# Altium schematic symbol library LDO.SchLib: 11 symbols
Pins are listed as number, name and electrical type; pins without a type are passive.

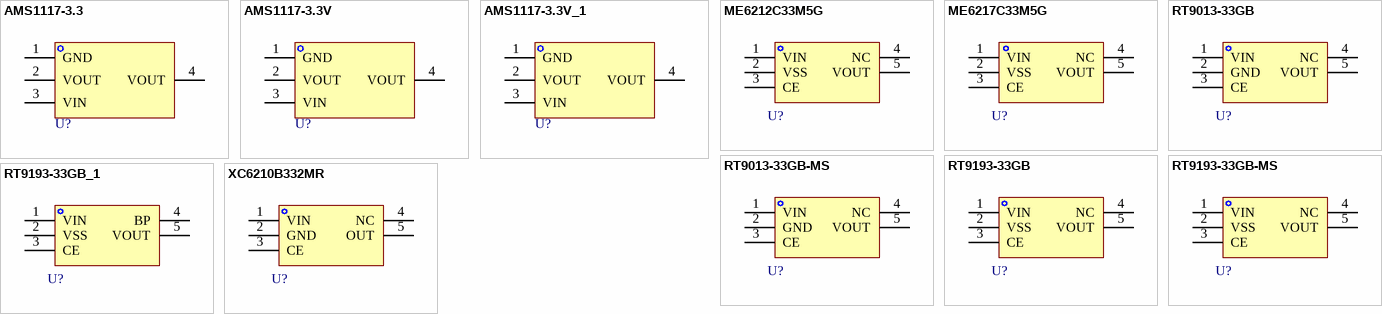
[diagram p0: symbols AMS1117-3.3 to XC6210B332MR]

## AMS1117-3.3
designator U?  (value not drawn)
AMS AMS1117 LDO SOT223封装 输出3.3V; 输出类型: 固定; 工作电压: 16V; 输出电压: 3.3V; 输出电流: 1A; 工作温度: -40℃~+125℃; 封装: SOT-223; 压差: 1.1V@(800mA); ComponentLink1Description: Datasheet; ComponentLink1URL: http://www.advanced-monolithic.com/pdf/ds1117.pdf; 制造商: AMS; 类别: LDO; 子类别: -
footprint AMS1117-SOT223 (SOT223, 4-Leads, Body 6.51x7.00mm (avg), Pitch 2.29mm, IPC Medium Density)
pins: 1 GND (power), 2 VOUT, 3 VIN (power), 4 VOUT

## AMS1117-3.3V
designator U?  (value not drawn)
JSMSEMI(杰盛微) AMS1117 LDO SOT223封装 输出3.3V; 输出类型: 固定; 工作电压: 15V; 输出电压: 3.3V; 输出电流: 1.2A; 工作温度: -40℃~+125℃; 封装: SOT-223; 压差: 1.5V@(800mA); ComponentLink1Description: Datasheet; ComponentLink1URL: http://www.advanced-monolithic.com/pdf/ds1117.pdf; 制造商: JSMSEMI(杰盛微); 类别: LDO; 子类别: -
footprint JSMSEMI-SOT223 (SOT223, 4-Leads, Body 6.30x6.95mm (avg), Pitch 2.30mm, IPC Medium Density)
pins: 1 GND (power), 2 VOUT, 3 VIN (power), 4 VOUT

## AMS1117-3.3V_1
designator U?, comment AMS1117-3.3V  (value not drawn)
MSKSEMI(美森科) AMS1117 LDO SOT223封装 输出3.3V; 输出类型: 固定; 工作电压: 12V; 输出电压: 3.3V; 输出电流: 1A; 工作温度: -40℃~+125℃; 封装: SOT-223; 压差: 1.4V@(1A); ComponentLink1Description: Datasheet; ComponentLink1URL: http://www.advanced-monolithic.com/pdf/ds1117.pdf; 制造商: MSKSEMI(美森科); 类别: LDO; 子类别: -
footprint MSKSEM-SOT223 (MSKSEMI(美森科) SOT223 推荐封装)
pins: 1 GND (power), 2 VOUT, 3 VIN (power), 4 VOUT

## ME6212C33M5G
designator U?  (value not drawn)
MICRONE(南京微盟) ME6212 LDO SOT235封装 输出3.3V; 输出类型: 固定; 工作电压: 6V; 输出电压: 3.3V; 输出电流: 350mA; 工作温度: -40℃~+150℃; 封装: SOT-23-5; 压差: 260mV@(200mA); 制造商: MICRONE(南京微盟); 类别: LDO; 子类别: -
footprint MICRONE-SOT235
pins: 1 VIN, 2 VSS, 3 CE, 4 NC, 5 VOUT

## ME6217C33M5G
designator U?  (value not drawn)
MICRONE(南京微盟) ME6217 LDO SOT235封装 输出3.3V; 输出类型: 固定; 工作电压: 7V; 输出电压: 3.3V; 输出电流: 800mA; 工作温度: -40℃~+85℃; 封装: SOT-23-5; 压差: 180mV@(300mA); 制造商: MICRONE(南京微盟); 类别: LDO; 子类别: -
footprint MICRONE-SOT235
pins: 1 VIN, 2 VSS, 3 CE, 4 NC, 5 VOUT

## RT9013-33GB
designator U?  (value not drawn)
TECH PUBLIC(台舟) RT9013-33GB LDO SOT235封装 输出3.3V; 输出类型: 固定; 工作电压: 7V; 输出电压: 3.3V; 输出电流: 500mA; 工作温度: -25℃~+85℃@(Ta); 封装: SOT-23-5; 压差: 300mV@(200mA); 制造商: TECH PUBLIC(台舟); 类别: LDO; 子类别: -
footprint TECHPUBLIC-SOT235 (SOT23, 5-Leads, Body 2.92x2.80mm, Pitch 0.95mm, IPC Medium Density)
pins: 1 VIN, 2 GND, 3 CE, 4 NC, 5 VOUT

## RT9013-33GB-MS
designator U?  (value not drawn)
MSKSEMI(美森科) 输出类型：固定 输出极性：正 最大输入电压：5.5V 输出电压：3.3V 输出电流：500mA 电源纹波抑制比(PSRR)：75dB@(1kHz)后面-MS代表品牌; 输出类型: 固定; 工作电压: 5.5V; 输出电压: 3.3V; 输出电流: 500mA; 工作温度: -25℃~+85℃@(Ta); 封装: SOT-23-5; 类别: LDO; 压差: 100mV@(100mA)；300mV@(200mA); 制造商: MSKSEMI(美森科); 子类别: -
footprint MSKSEMI-SOT-23-5 (MSKSEMI(美森科) SOT235 推荐fengzhuang)
pins: 1 VIN, 2 GND, 3 CE, 4 NC, 5 VOUT

## RT9193-33GB
designator U?  (value not drawn)
TECH PUBLIC(台舟) RT9193-33GB LDO SOT235封装 输出3.3V; 输出类型: 固定; 工作电压: 6V; 输出电压: 3.3V; 输出电流: 300mA; 工作温度: -25℃~+85℃@(Ta); 封装: SOT-23-5; 压差: 230mV@(200mA); 制造商: TECH PUBLIC(台舟); 类别: LDO; 子类别: -
footprint TECHPUBLIC-SOT235 (SOT23, 5-Leads, Body 2.92x2.80mm, Pitch 0.95mm, IPC Medium Density)
pins: 1 VIN, 2 VSS, 3 CE, 4 NC, 5 VOUT

## RT9193-33GB-MS
designator U?  (value not drawn)
MSKSEMI(美森科) RT9193-33GB LDO SOT235封装 输出3.3V; 输出类型: 固定; 工作电压: 5.5V; 输出电压: 3.3V; 输出电流: 500mA; 工作温度: -25℃~+85℃@(Ta); 封装: SOT-23-5; 压差: 300mV@(200mA); 制造商: MSKSEMI(美森科); 类别: LDO; 子类别: -
footprint MSKSEMI-SOT-23-5 (MSKSEMI(美森科) SOT235 推荐fengzhuang)
pins: 1 VIN, 2 VSS, 3 CE, 4 NC, 5 VOUT

## RT9193-33GB_1
designator U?, comment RT9193-33GB  (value not drawn)
RICHTEK(立锜) RT9193-33GB LDO SOT235封装 输出3.3V; 输出类型: 固定; 工作电压: 5.5V; 输出电压: 3.3V; 输出电流: 300mA; 工作温度: -40℃~+125℃@(Tj); 制造商: TECH PUBLIC(台舟); 封装: SOT-23-5; 压差: 230mV@(200mA); 类别: LDO; 子类别: -
footprint RICHTEK-SOT235 (RICHTEK(立锜) TSOT-25/TSOT-25(FC)/SOT-25 推荐焊盘)
pins: 1 VIN, 2 VSS, 3 CE, 4 BP "Reference Noise Bypass. This pin can be floating. For lowest noise performance, connect a 22nF capacitor between the BP and GND pins", 5 VOUT

## XC6210B332MR
designator U?  (value not drawn)
TECH PUBLIC(台舟) XC6210B332MR LDO SOT235封装 输出3.3V; 输出类型: 固定; 工作电压: 5.5V; 输出电压: 3.3V; 输出电流: 800mA; 工作温度: -25℃~+85℃@(Ta); 封装: SOT-23-5; 压差: 150mV@(300mA); 制造商: TECH PUBLIC(台舟); 类别: LDO; 子类别: -
footprint TECHPUBLIC-SOT235 (SOT23, 5-Leads, Body 2.92x2.80mm, Pitch 0.95mm, IPC Medium Density)
pins: 1 VIN, 2 GND, 3 CE, 4 NC, 5 OUT